# Altium schematic symbol library CRCW1206750RJNTA.SchLib: 1 symbol
Pins are listed as number, name and electrical type; pins without a type are passive.

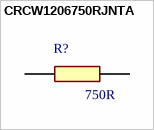
[diagram p0: symbol CRCW1206750RJNTA]

## CRCW1206750RJNTA
designator R?, comment 750R
Lead (Pb)-Bearing Thick Film, Rectangular Chip Resistors. 750R. CRCW1206750RJNTA; Manufacturer_Name: Vishay; Geometry.Height: 0.6mm; Mouser Part Number: *; Mouser Price/Stock: *; Manufacturer_Part_Number: CRCW1206750RJNTA; Datasheet Link: https://www.mouser.co.uk/datasheet/2/427/dcrcw-72725.pdf
footprint RESC3216X60N
pins: 1, 2